# Altium integrated library K78_JT-500R3-LB.IntLib: 1 symbol
Pins are listed as number, name and electrical type; pins without a type are passive.

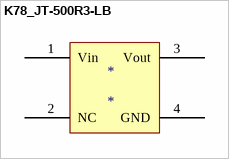
[diagram p0: symbol K78_JT-500R3-LB]

## K78_JT-500R3-LB
designator *
pins: 1 Vin, 2 NC, 3 Vout, 4 GND